# EAGLE library part TSM931 (library adlr)
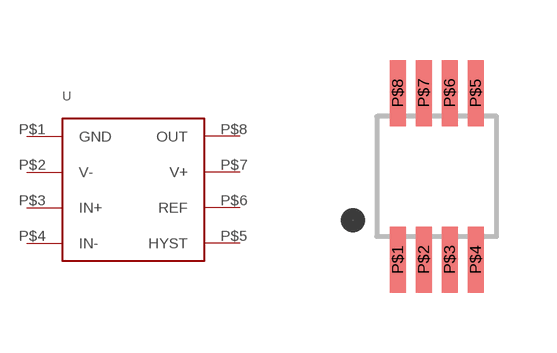
[diagram p1: symbol with the pads of 8-MSOP; footprint 8-MSOP]

Designator prefix U

## TSM931  [8-MSOP]
P$1  GND
P$2  V-
P$3  IN+
P$4  IN-
P$5  HYST
P$6  REF
P$7  V+
P$8  OUT

## Footprint 8-MSOP (pad centres in mm)
smd 0.4 x 1.65: P$1 -0.975,-2.083; P$2 -0.325,-2.083; P$3 0.325,-2.083; P$4 0.975,-2.083; P$5 0.975,2.083; P$6 0.325,2.083; P$7 -0.325,2.083; P$8 -0.975,2.083